# EAGLE library part 61000621821 (library Wuerth_Elektronik_eiCan_Pin_&_Socked_Headers_v1.3)
WR-PHD 2.54mm Dual SMT Socket Header, 6 Pins
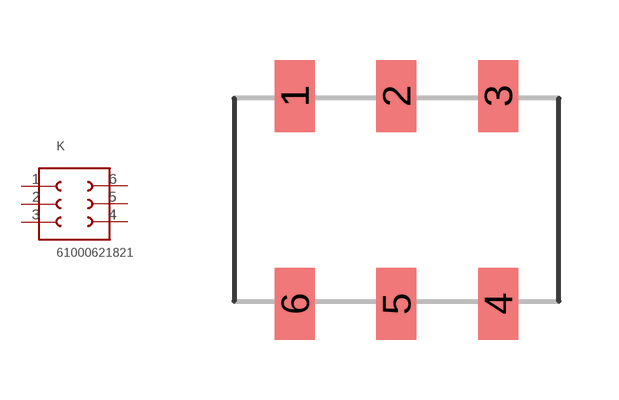
[diagram p248: symbol with the pads of 61000621821; footprint 61000621821]

Designator prefix K

## 61000621821  [61000621821]
1  1  pas
2  2  pas
3  3  pas
4  4  pas
5  5  pas
6  6  pas

## Footprint 61000621821 (pad centres in mm)
WR-PHD 2.54mm Dual SMT Socket Header, 6 Pins
smd 1 x 1.8: 1 -2.54,2.6; 2 0,2.6; 3 2.54,2.6; 4 2.54,-2.6; 5 0,-2.6; 6 -2.54,-2.6